# Altium schematic symbol library Switch_Mechanical.SchLib: 1 symbol
Pins are listed as number, name and electrical type; pins without a type are passive.

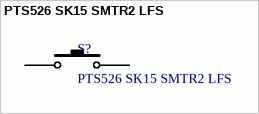
[diagram p0: symbol PTS526 SK15 SMTR2 LFS]

## PTS526 SK15 SMTR2 LFS
designator S?
Tactile Switch SPST-NO Top Actuated Surface Mount; Manufacturer 1: C&K; Switch Function: Off-Mom; Contact Rating @ Voltage: 0.05 A @ 12 VDC; Supplier 1: Digi-Key; Supplier Part Number 1: CKN12221-1-ND; Manufacturer Part Number 1: PTS526 SK15 SMTR2 LFS; Circuit: SPST-NO
footprint CK_PTS526SK15SMTR2LFS (C&K PTS526 SK15 SMTR2 LFS)
pins: 1, 2, 3, 4